# Altium schematic symbol library ice40.SCHLIB: 47 symbols
Pins are listed as number, name and electrical type; pins without a type are passive.

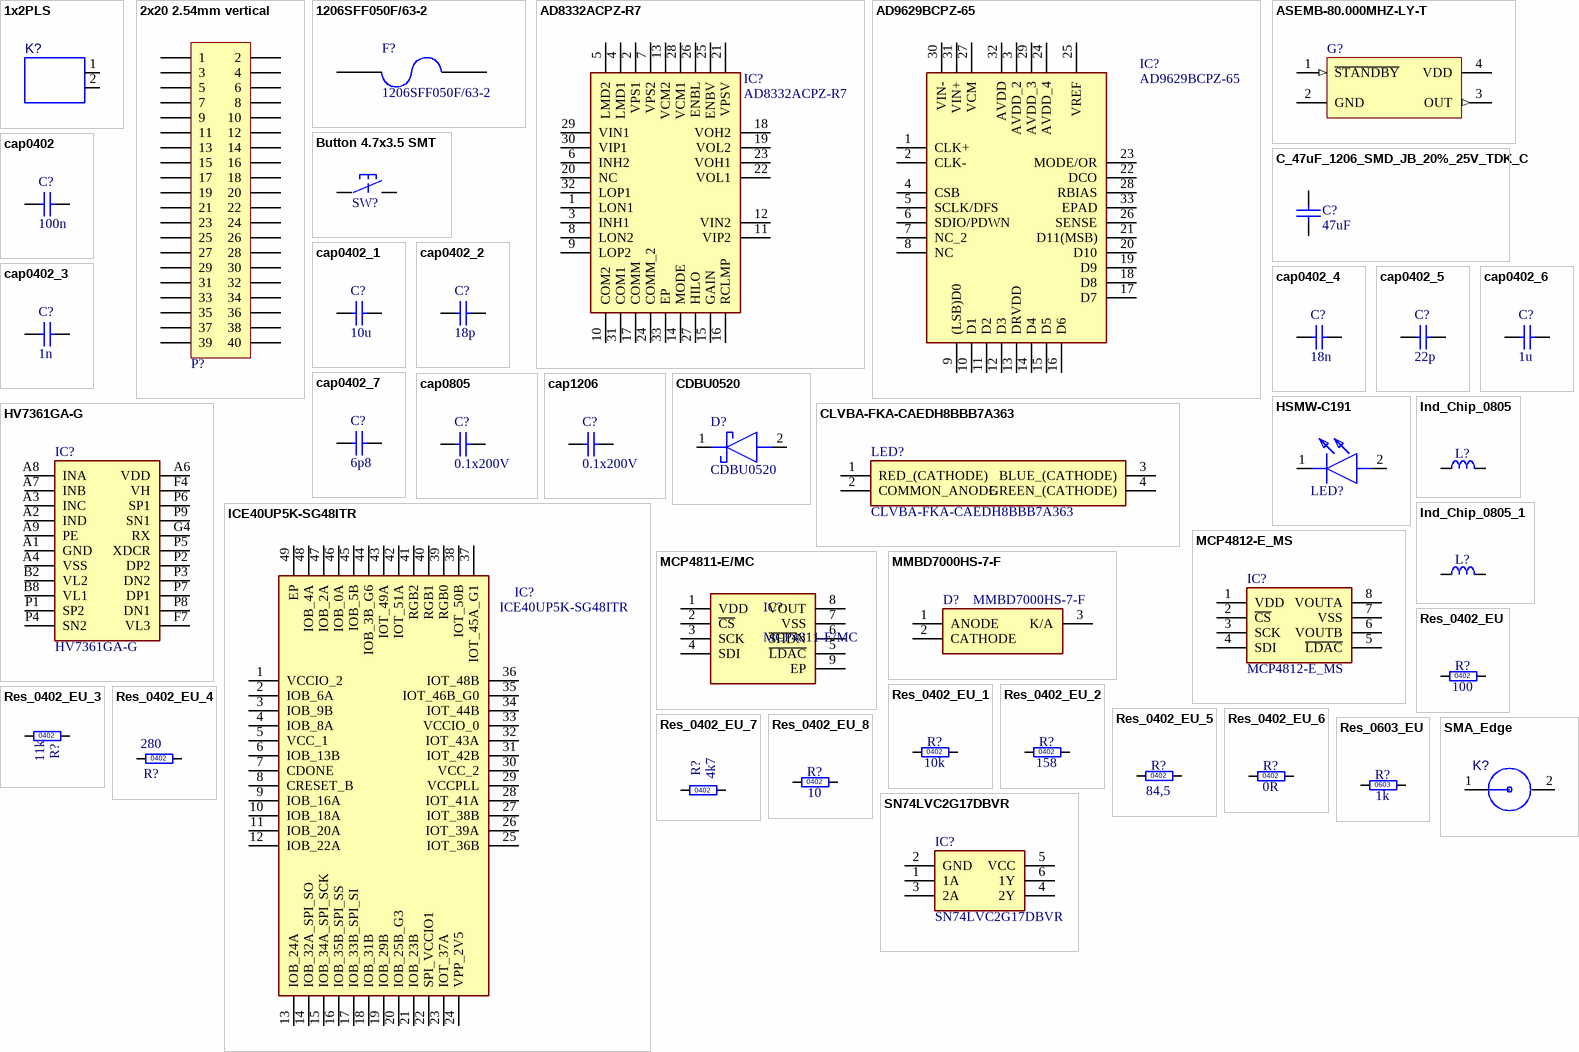
[diagram p0: symbols 1x2PLS to SN74LVC2G17DBVR]

## 1x2PLS
designator K?  (value not drawn)
Value: *
footprint JUMPER2
pins: 1, 2

## 2x20 2.54mm vertical
designator P?  (value not drawn)
Header, 40-Pin; LatestRevisionDate: 17-Jul-2002; LatestRevisionNote: Re-released for DXP Platform.; Publisher: Altium Limited
footprint PLD-40
pins: 1, 2, 3, 4, 5, 6, 7, 8, 9, 10, 11, 12, 13, 14, 15, 16, 17, 18, 19, 20, 21, 22, 23, 24, 25, 26, 27, 28, 29, 30, 31, 32, 33, 34, 35, 36, 37, 38, 39, 40

## 1206SFF050F/63-2
designator F?
500mA AC 63V DC Fuse Board Mount Surface Mount 1206; ATT Technology: SMD; ATT Fuse size: 1206; DigikeyPartNumber: 1206SFF050F/63-2CT-ND; ManufacturerPartNumber: 1206SFF050F/63-2; helpURL: https://www.littelfuse.com/~/media/electronics/datasheets/fuses/littelfuse_fuse_sfs_datasheet.pdf.pdf; photoURL: https://media.digikey.com/photos/Tyco%20Raychem%20Photos/1206SFF%20SERIES.jpg; ATT Current Rating (Amps): 500mA; ATT Voltage Rating DC: 63V; ATT Operating Temperature: -55°C ~ 125°C
footprint FUSE_1206 (FUSE, 2-Leads, Body 3.2x1.60mm, IPC Medium Density)
pins: 1, 2

## AD8332ACPZ-R7
designator IC?
Integrated Circuit; Manufacturer_Name: Analog Devices; Manufacturer_Part_Number: AD8332ACPZ-R7; Mouser Part Number: 584-AD8332ACPZ-R7; Mouser Price/Stock: https://www.mouser.co.uk/ProductDetail/Analog-Devices/AD8332ACPZ-R7?qs=%2FtpEQrCGXCzEVqYW%252BWJwOA%3D%3D; Arrow Part Number: AD8332ACPZ-R7; Arrow Price/Stock: https://www.arrow.com/en/products/ad8332acpz-r7/analog-devices
footprint QFN50P500X500X100-33N
pins: 1 LON1, 2 VPS1, 3 INH1, 4 LMD1, 5 LMD2, 6 INH2, 7 VPS2, 8 LON2, 9 LOP2, 10 COM2, 11 VIP2, 12 VIN2, 13 VCM2, 14 MODE, 15 GAIN, 16 RCLMP, 17 COMM, 18 VOH2, 19 VOL2, 20 NC, 21 VPSV, 22 VOL1, 23 VOH1, 24 COMM_2, 25 ENBV, 26 ENBL, 27 HILO, 28 VCM1, 29 VIN1, 30 VIP1, 31 COM1, 32 LOP1, 33 EP

## AD9629BCPZ-65
designator IC?
Integrated Circuit; Manufacturer_Name: Analog Devices; Manufacturer_Part_Number: AD9629BCPZ-65; Mouser Part Number: 584-AD9629BCPZ-65; Mouser Price/Stock: https://www.mouser.co.uk/ProductDetail/Analog-Devices/AD9629BCPZ-65?qs=BpaRKvA4VqGjvk9AFyB3jg%3D%3D; Arrow Part Number: AD9629BCPZ-65; Arrow Price/Stock: https://www.arrow.com/en/products/ad9629bcpz-65/analog-devices
footprint QFN50P500X500X100-33N
pins: 1 CLK+, 2 CLK-, 3 AVDD_2, 4 CSB, 5 SCLK/DFS, 6 SDIO/PDWN, 7 NC_2, 8 NC, 9 (LSB)D0, 10 D1, 11 D2, 12 D3, 13 DRVDD, 14 D4, 15 D5, 16 D6, 17 D7, 18 D8, 19 D9, 20 D10, 21 D11(MSB), 22 DCO, 23 MODE/OR, 24 AVDD_4, 25 VREF, 26 SENSE, 27 VCM, 28 RBIAS, 29 AVDD_3, 30 VIN-, 31 VIN+, 32 AVDD, 33 EPAD

## ASEMB-80.000MHZ-LY-T
designator G?, comment Oscillator  (value not drawn)
OSC MEMS 80 MHZ SMD; Validation Status: Verified; ATT Frequency: 80Mhz; ATT Frequency Stability: ±10ppm; ATT Package / Case: 4-SMD, No Lead (DFN, LCC); ATT Series: ASEMB, Pure Silicon™; ATT Supply Current: 16mA; ATT Supply Voltage: 1.7 V ~ 3.6 V; ATT Type: MEMS (Silicon); HelpURL: https://www.mouser.ca/datasheet/2/3/ASEMB-7474.pdf; PhotoURI: http://media.digikey.com/Photos/Abracon%20Corporation%20Photos/ASEMB3.2-SERIES.jpg; RoHS: Compliant; Technology: SMT; ATT Operating Temperature: -40°C ~ 85°C; Supplier 1: Digi-Key; Supplier Part Number 1: 535-11082-1-ND
footprint OSC_ASEM
pins: 1 ~{STANDBY} (in), 2 GND (power), 3 OUT (out), 4 VDD (power)

## Button 4.7x3.5 SMT
designator SW?, comment EVQ-P9P02M  (value not drawn)
footprint Button 4.7x3.5 _SMT (EVQ-P9P02M_SMT)
pins: 1, 2, 3, 4

## C_47uF_1206_SMD_JB_20%_25V_TDK_C
designator C?, comment value 47uF  (hidden comment: Capacitor)
CAP CER 47UF 25V X5R 1206; ManufacturerPartNumber: C3216JB1E476M160AC; Validation Status: Verified; ATT Capacitor Type: Ceramic; ATT Case: 1206 (3216 Metric); ATT Temperature Coefficient: JB; ATT Tolerance: ±20%; DigikeyPartNumber: 445-11717-1-ND; HelpURL: https://product.tdk.com/info/en/documents/chara_sheet/C3216JB1E476M160AC.pdf?ref_disty=digikey; PhotoURI: https://media.digikey.com/Renders/Murata%20Renders/1206-(3216-Metric)-1,80mm.jpg; RoHS: Compliant; Technology: SMT; ATT Lifetime @ Temp: -; ATT Working Voltage: 25V; ATT Operating Temperature: -25°C ~ 85°C
footprint CAP_CERAMIC_1206
pins: 1, 2

## cap0402
designator C?  value 100n  (hidden comment: cap0402)
Capacitor  0402 inch; Published: 8-Jun-2000; LatestRevisionDate: 17-Jul-2002; LatestRevisionNote: Re-released for DXP Platform.; PackageReference: RAD-0.3; Publisher: Altium Limited; PackageDescription: Radial Cap, Thru-Hole; 2 Leads; 0.3 in Pin Spacing
footprint SM0402_3D_cap (0402 cap)
pins: 1, 2

## cap0402_1
designator C?, comment value 10u  (hidden comment: cap0402)
Capacitor  0402 inch; Published: 8-Jun-2000; LatestRevisionDate: 17-Jul-2002; LatestRevisionNote: Re-released for DXP Platform.; PackageReference: RAD-0.3; Publisher: Altium Limited; PackageDescription: Radial Cap, Thru-Hole; 2 Leads; 0.3 in Pin Spacing
footprint SM0402_3D_cap (0402 cap)
pins: 1, 2

## cap0402_2
designator C?, comment value 18p  (hidden comment: cap0402)
Capacitor  0402 inch; Published: 8-Jun-2000; LatestRevisionDate: 17-Jul-2002; LatestRevisionNote: Re-released for DXP Platform.; PackageReference: RAD-0.3; Publisher: Altium Limited; PackageDescription: Radial Cap, Thru-Hole; 2 Leads; 0.3 in Pin Spacing
footprint SM0402_3D_cap (0402 cap)
pins: 1, 2

## cap0402_3
designator C?, comment value 1n  (hidden comment: cap0402)
Capacitor  0402 inch; Published: 8-Jun-2000; LatestRevisionDate: 17-Jul-2002; LatestRevisionNote: Re-released for DXP Platform.; PackageReference: RAD-0.3; Publisher: Altium Limited; PackageDescription: Radial Cap, Thru-Hole; 2 Leads; 0.3 in Pin Spacing
footprint SM0402_3D_cap (0402 cap)
pins: 1, 2

## cap0402_4
designator C?, comment value 18n  (hidden comment: cap0402)
Capacitor  0402 inch; Published: 8-Jun-2000; LatestRevisionDate: 17-Jul-2002; LatestRevisionNote: Re-released for DXP Platform.; PackageReference: RAD-0.3; Publisher: Altium Limited; PackageDescription: Radial Cap, Thru-Hole; 2 Leads; 0.3 in Pin Spacing
footprint SM0402_3D_cap (0402 cap)
pins: 1, 2

## cap0402_5
designator C?, comment value 22p  (hidden comment: cap0402)
Capacitor  0402 inch; Published: 8-Jun-2000; LatestRevisionDate: 17-Jul-2002; LatestRevisionNote: Re-released for DXP Platform.; PackageReference: RAD-0.3; Publisher: Altium Limited; PackageDescription: Radial Cap, Thru-Hole; 2 Leads; 0.3 in Pin Spacing
footprint SM0402_3D_cap (0402 cap)
pins: 1, 2

## cap0402_6
designator C?, comment value 1u  (hidden comment: cap0402)
Capacitor  0402 inch; Published: 8-Jun-2000; LatestRevisionDate: 17-Jul-2002; LatestRevisionNote: Re-released for DXP Platform.; PackageReference: RAD-0.3; Publisher: Altium Limited; PackageDescription: Radial Cap, Thru-Hole; 2 Leads; 0.3 in Pin Spacing
footprint SM0402_3D_cap (0402 cap)
pins: 1, 2

## cap0402_7
designator C?, comment value 6p8  (hidden comment: cap0402)
Capacitor  0402 inch; Published: 8-Jun-2000; LatestRevisionDate: 17-Jul-2002; LatestRevisionNote: Re-released for DXP Platform.; PackageReference: RAD-0.3; Publisher: Altium Limited; PackageDescription: Radial Cap, Thru-Hole; 2 Leads; 0.3 in Pin Spacing
footprint SM0402_3D_cap (0402 cap)
pins: 1, 2

## cap0805
designator C?  value 0.1x200V  (hidden comment: cap0805)
Capacitor; Published: 8-Jun-2000; LatestRevisionDate: 17-Jul-2002; LatestRevisionNote: Re-released for DXP Platform.; PackageReference: RAD-0.3; Publisher: Altium Limited; PackageDescription: Radial Cap, Thru-Hole; 2 Leads; 0.3 in Pin Spacing
signal-integrity model Cap
footprint SM0805
pins: 1, 2

## cap1206
designator C?  value 0.1x200V  (hidden comment: cap1206)
Capacitor; Published: 8-Jun-2000; LatestRevisionDate: 17-Jul-2002; LatestRevisionNote: Re-released for DXP Platform.; PackageReference: RAD-0.3; Publisher: Altium Limited; PackageDescription: Radial Cap, Thru-Hole; 2 Leads; 0.3 in Pin Spacing
signal-integrity model Cap
footprint SM1206
pins: 1, 2

## CDBU0520
designator D?
Schottky Diode; Manufacturer_Name: Comchip Technology; Datasheet Link: http://www.comchiptech.com/admin/files/product/CDBU0520-HF-RevA797161.pdf; Height: 0.85mm; Manufacturer_Part_Number: CDBU0520; Mouser Part Number: 750-CDBU0520; Mouser Price/Stock: https://www.mouser.co.uk/ProductDetail/Comchip-Technology/CDBU0520/?qs=QrYNfmA0esYvGSGDalbccA%3D%3D; Arrow Part Number: CDBU0520; Arrow Price/Stock: https://www.arrow.com/en/products/cdbu0520/comchip-technology
footprint DIOC1709X85N
pins: 1 K, 2 A

## CLVBA-FKA-CAEDH8BBB7A363
designator LED?
LED; Manufacturer_Name: Cree; Datasheet Link: http://www.cree.com/led-components/media/documents/ds-CLVBA-FKA.pdf; Height: 2.1mm; Manufacturer_Part_Number: CLVBA-FKA-CAEDH8BBB7A363; Mouser Part Number: 941-VBAFKACAEDH8B7A3; Mouser Price/Stock: https://www.mouser.co.uk/ProductDetail/Cree-Inc/CLVBA-FKA-CAEDH8BBB7a363/?qs=3AcK5DacLboXYkg4biCgSA%3D%3D; Arrow Part Number: CLVBA-FKA-CAEDH8BBB7A363; Arrow Price/Stock: https://www.arrow.com/en/products/clvba-fka-caedh8bbb7a363/cree
footprint CLVBAFKACAEDH8BBB7A363
pins: 1 RED_(CATHODE), 2 COMMON_ANODE, 3 BLUE_(CATHODE), 4 GREEN_(CATHODE)

## HSMW-C191
designator LED?  (value not drawn)
LED; Manufacturer_Name: Avago Technologies; Datasheet Link: https://docs.broadcom.com/docs/AV02-0186EN; Height: 0.7mm; Manufacturer_Part_Number: HSMW-C191; Mouser Part Number: 630-HSMW-C191; Mouser Price/Stock: https://www.mouser.com/Search/Refine.aspx?Keyword=630-HSMW-C191
footprint LEDC1608X70N
pins: 1 K, 2 A

## HV7361GA-G
designator IC?
Integrated Circuit; Manufacturer_Name: Microchip; Datasheet Link: http://ww1.microchip.com/downloads/en/DeviceDoc/20005570C.pdf; Height: 1.05mm; Manufacturer_Part_Number: HV7361GA-G; Mouser Part Number: 579-HV7361GA-G; Mouser Price/Stock: https://www.mouser.co.uk/ProductDetail/Microchip-Technology/HV7361GA-G?qs=NoqMqJKvPFJ98Yl1cb744A%3D%3D; Arrow Part Number: HV7361GA-G; Arrow Price/Stock: https://www.arrow.com/en/products/hv7361ga-g/microchip-technology
footprint BGA22C50P9X14_500X700X105
pins: A1 GND, A2 IND, A3 INC, A4 VSS, A6 VDD, A7 INB, A8 INA, A9 PE, B2 VL2, B8 VL1, F4 VH, F7 VL3, G4 RX, P1 SP2, P2 DP2, P3 DN2, P4 SN2, P5 XDCR, P6 SP1, P7 DP1, P8 DN1, P9 SN1

## ICE40UP5K-SG48ITR
designator IC?
Integrated Circuit; Manufacturer_Name: Lattice Semiconductor; Datasheet Link: https://www.arrow.com/en/products/ice40up5k-sg48itr/lattice-semiconductor; Height: 1mm; Manufacturer_Part_Number: ICE40UP5K-SG48ITR; Mouser Part Number: 842-40UP5KSG48ITR; Mouser Price/Stock: https://www.mouser.com/Search/Refine.aspx?Keyword=842-40UP5KSG48ITR; Arrow Part Number: ICE40UP5K-SG48ITR; Arrow Price/Stock: https://www.arrow.com/en/products/ice40up5k-sg48itr/lattice-semiconductor
footprint QFN50P700X700X100-49N-D
pins: 1 VCCIO_2, 2 IOB_6A, 3 IOB_9B, 4 IOB_8A, 5 VCC_1, 6 IOB_13B, 7 CDONE, 8 CRESET_B, 9 IOB_16A, 10 IOB_18A, 11 IOB_20A, 12 IOB_22A, 13 IOB_24A, 14 IOB_32A_SPI_SO, 15 IOB_34A_SPI_SCK, 16 IOB_35B_SPI_SS, 17 IOB_33B_SPI_SI, 18 IOB_31B, 19 IOB_29B, 20 IOB_25B_G3, 21 IOB_23B, 22 SPI_VCCIO1, 23 IOT_37A, 24 VPP_2V5, 25 IOT_36B, 26 IOT_39A, 27 IOT_38B, 28 IOT_41A, 29 VCCPLL, 30 VCC_2, 31 IOT_42B, 32 IOT_43A, 33 VCCIO_0, 34 IOT_44B, 35 IOT_46B_G0, 36 IOT_48B, 37 IOT_45A_G1, 38 IOT_50B, 39 RGB0, 40 RGB1, 41 RGB2, 42 IOT_51A, 43 IOT_49A, 44 IOB_3B_G6, 45 IOB_5B, 46 IOB_0A, 47 IOB_2A, 48 IOB_4A, 49 EP

## Ind_Chip_0805
designator L?, comment 75R@100MHz  (value not drawn)
Ferrite Beads Multi-Layer 600Ohm 25% 100MHz 1A 0.2Ohm DCR 0603 T/R; Part Number: IND0805_MURATA_BLM21BB750SN1D; Part Description: SMD EMIFIL Suppression Chip Ferrite Bead; Manufacturer: MURATA; Manufacturer Part Number: BLM21BB750SN1D; ManufacturerPartNumber: PBY160808T-601Y-N; Power: 700mA; Resistance: 0.16R; Table: Inductors SMD; Component Kind: Standard; Component Type: Standard; Footprint: INDC2012X105N; Pin Count: 2; Value: 75R@100MHz; Status: None; Tolerance: ±25%; Case: 0805; Mounted: Yes; Socket: No; SMD: Yes; ComponentHeight: 1.05mm; Author: S. Jafar; CreateDate: 12/21/2015; LatestRevisionDate: 12/21/2015; Supplier 1: Digi-Key; Supplier Part Number 1: 13-PBY160808T-601Y-NCT-ND; RoHS: Yes; Case/Package: 0603; RoHS Compliant: Yes; ComponentLink1URL: http://components.arrow.com/part/dataview/0323_06472368?src-supplier=Arrow+Europe; ComponentLink1Description: http://components.arrow.com/part/dataview/0323_06472368?src-supplier=Arrow+Europe
footprint SM_0805_INDUCTANCE _3D (chip inductanse 0805 inch)
pins: 1, 2

## Ind_Chip_0805_1
designator L?, comment 75R@100MHz  (value not drawn)
chip inductance; Part Number: IND0805_MURATA_BLM21BB750SN1D; Part Description: SMD EMIFIL Suppression Chip Ferrite Bead; Manufacturer: MURATA; Manufacturer Part Number: AIML-0805HC-1R5M-T; Power: 700mA; Resistance: 0.16R; Tolerance: ±25%; Table: Inductors SMD; Component Kind: Standard; Component Type: Standard; Footprint: INDC2012X105N; Pin Count: 2; Value: 75R@100MHz; Status: None; Case: 0805; Mounted: Yes; Socket: No; SMD: Yes; ComponentHeight: 1.05mm; Author: S. Jafar; CreateDate: 12/21/2015; LatestRevisionDate: 12/21/2015; Supplier 1: Digi-Key; Supplier Part Number 1: 535-12788-1-ND
footprint SM_0805_INDUCTANCE _3D (chip inductanse 0805 inch)
pins: 1, 2

## MCP4811-E/MC
designator IC?
DAC 1-CH Resistor-String 10-bit Automotive 8-Pin DFN EP Tube; Manufacturer: Microchip; Resolution: 10b; Integral Nonlinearity (INL): 3.5LSB; Output Type: Voltage; Interface: SPI,Serial,3-WIRE; Number of DAC Channels: 1; Nominal Supply Current: 330uA; Max Supply Voltage: 5.5V; Min Supply Voltage: 2.7V; Operating Supply Voltage: 5V; Settling Time: 4.5us; Number of Bits: 10; Polarity: Bipolar; Input Offset Voltage (Vos): 820uV; Supplier 1: Digi-Key; Supplier Part Number 1: MCP4811-E/MC-ND; ManufacturerPartNumber: MCP4811-E/MC; RoHS: Yes; Mount: Surface Mount; Case/Package: DFN; Number of Pins: 8; Min Operating Temperature: -40°C; Max Operating Temperature: 125°C; Packaging: Rail/Tube; Package Quantity: 150; Number of Channels: 1; Number of Converters: 1; Output Polarity: Bipolar; Supply Current: 330uA; Full Scale Error: 3.5LSB; Length: 2mm; Width: 3mm; Height: 0.95mm; Radiation Hardening: No; REACH SVHC: No SVHC; Lead Free: Lead Free; ComponentLink1URL: https://datasheet.ciiva.com/26922/getdatasheetpartid-765518-26922591.pdf?src-supplier=Verical; ComponentLink1Description: datasheet
footprint SON50P200X300X100-9N
pins: 1 VDD, 2 ~{CS}, 3 SCK, 4 SDI, 5 ~{LDAC}, 6 ~{SHD}N, 7 VSS, 8 VOUT, 9 EP

## MCP4812-E_MS
designator IC?
Integrated Circuit; Manufacturer_Name: Microchip; Manufacturer_Part_Number: MCP4812-E/MS; Datasheet Link: http://ww1.microchip.com/downloads/en/DeviceDoc/20002249B.pdf; Height: 1.1mm; Mouser Part Number: 579-MCP4812-E/MS; Mouser Price/Stock: https://www.mouser.com/Search/Refine.aspx?Keyword=579-MCP4812-E%2FMS; Arrow Part Number: MCP4812-E/MS; Arrow Price/Stock: https://www.arrow.com/en/products/mcp4812-ems/microchip-technology
footprint SOP65P490X110-8N
pins: 1 VDD, 2 ~{CS}, 3 SCK, 4 SDI, 5 ~{LDAC}, 6 VOUTB, 7 VSS, 8 VOUTA

## MMBD7000HS-7-F
designator D?
Diode; Manufacturer_Name: Diodes Inc.; Datasheet Link: https://www.diodes.com/assets/Datasheets/ds31782.pdf; Height: 1.1mm; Manufacturer_Part_Number: MMBD7000HS-7-F; Mouser Part Number: 621-MMBD7000HS-7-F; Mouser Price/Stock: https://www.mouser.co.uk/ProductDetail/Diodes-Incorporated/MMBD7000HS-7-F/?qs=4YT44p7w2bs7ic313M4gfA%3D%3D; Arrow Part Number: MMBD7000HS-7-F; Arrow Price/Stock: https://www.arrow.com/en/products/mmbd7000hs-7-f/diodes-incorporated
footprint SOT96P240X110-3N
pins: 1 ANODE, 2 CATHODE, 3 K/A

## Res_0402_EU
designator R?, comment 100
Res_0402_EU; Part Number: R1206_4K7_1%_0.25W_100PPM; Part Description: General Purpose Thick Film Chip Resistor; Manufacturer: GENERIC; Manufacturer1 Part Number: NRC12F4701TRF; Value: 4k7; Power: 0.25W; TC: ±100ppm/°C; Tolerance: ±1%; Table: Resistors SMD; Component Kind: Standard; Component Type: Standard; Footprint: RESC3216X65N; Pin Count: 2; Status: Preferred; Manufacturer Part Number: R1206_4K7_1%_0.25W_100PPM; Case: 1206; Mounted: Yes; Socket: No; SMD: Yes; Manufacturer1 Example: NIC COMPONENT; Manufacturer1 ComponentHeight: 0.65mm; HelpURL: \\cern.ch\dfs\Applications\Altium\Datasheets\R1206_NIC_NRC.pdf; Author: CERN DEM JLC; CreateDate: 12/3/2007; LatestRevisionDate: 3/13/2008
footprint SM0402_3D_res (0603 inch resistor)
pins: 1, 2
text: 0402

## Res_0402_EU_1
designator R?, comment 10k
Res_0402_EU; Part Number: R1206_4K7_1%_0.25W_100PPM; Part Description: General Purpose Thick Film Chip Resistor; Manufacturer: GENERIC; Manufacturer1 Part Number: NRC12F4701TRF; Value: 4k7; Power: 0.25W; TC: ±100ppm/°C; Tolerance: ±1%; Table: Resistors SMD; Component Kind: Standard; Component Type: Standard; Footprint: RESC3216X65N; Pin Count: 2; Status: Preferred; Manufacturer Part Number: R1206_4K7_1%_0.25W_100PPM; Case: 1206; Mounted: Yes; Socket: No; SMD: Yes; Manufacturer1 Example: NIC COMPONENT; Manufacturer1 ComponentHeight: 0.65mm; HelpURL: \\cern.ch\dfs\Applications\Altium\Datasheets\R1206_NIC_NRC.pdf; Author: CERN DEM JLC; CreateDate: 12/3/2007; LatestRevisionDate: 3/13/2008
footprint SM0402_3D_res (0603 inch resistor)
pins: 1, 2
text: 0402

## Res_0402_EU_2
designator R?, comment 158
Res_0402_EU; Part Number: R1206_4K7_1%_0.25W_100PPM; Part Description: General Purpose Thick Film Chip Resistor; Manufacturer: GENERIC; Manufacturer1 Part Number: NRC12F4701TRF; Value: 4k7; Power: 0.25W; TC: ±100ppm/°C; Tolerance: ±1%; Table: Resistors SMD; Component Kind: Standard; Component Type: Standard; Footprint: RESC3216X65N; Pin Count: 2; Status: Preferred; Manufacturer Part Number: R1206_4K7_1%_0.25W_100PPM; Case: 1206; Mounted: Yes; Socket: No; SMD: Yes; Manufacturer1 Example: NIC COMPONENT; Manufacturer1 ComponentHeight: 0.65mm; HelpURL: \\cern.ch\dfs\Applications\Altium\Datasheets\R1206_NIC_NRC.pdf; Author: CERN DEM JLC; CreateDate: 12/3/2007; LatestRevisionDate: 3/13/2008
footprint SM0402_3D_res (0603 inch resistor)
pins: 1, 2
text: 0402

## Res_0402_EU_3
designator R?, comment 11k
Res_0402_EU; Part Number: R1206_4K7_1%_0.25W_100PPM; Part Description: General Purpose Thick Film Chip Resistor; Manufacturer: GENERIC; Manufacturer1 Part Number: NRC12F4701TRF; Value: 4k7; Power: 0.25W; TC: ±100ppm/°C; Tolerance: ±1%; Table: Resistors SMD; Component Kind: Standard; Component Type: Standard; Footprint: RESC3216X65N; Pin Count: 2; Status: Preferred; Manufacturer Part Number: R1206_4K7_1%_0.25W_100PPM; Case: 1206; Mounted: Yes; Socket: No; SMD: Yes; Manufacturer1 Example: NIC COMPONENT; Manufacturer1 ComponentHeight: 0.65mm; HelpURL: \\cern.ch\dfs\Applications\Altium\Datasheets\R1206_NIC_NRC.pdf; Author: CERN DEM JLC; CreateDate: 12/3/2007; LatestRevisionDate: 3/13/2008
footprint SM0402_3D_res (0603 inch resistor)
pins: 1, 2
text: 0402

## Res_0402_EU_4
designator R?, comment 280
Res_0402_EU; Part Number: R1206_4K7_1%_0.25W_100PPM; Part Description: General Purpose Thick Film Chip Resistor; Manufacturer: GENERIC; Manufacturer1 Part Number: NRC12F4701TRF; Value: 4k7; Power: 0.25W; TC: ±100ppm/°C; Tolerance: ±1%; Table: Resistors SMD; Component Kind: Standard; Component Type: Standard; Footprint: RESC3216X65N; Pin Count: 2; Status: Preferred; Manufacturer Part Number: R1206_4K7_1%_0.25W_100PPM; Case: 1206; Mounted: Yes; Socket: No; SMD: Yes; Manufacturer1 Example: NIC COMPONENT; Manufacturer1 ComponentHeight: 0.65mm; HelpURL: \\cern.ch\dfs\Applications\Altium\Datasheets\R1206_NIC_NRC.pdf; Author: CERN DEM JLC; CreateDate: 12/3/2007; LatestRevisionDate: 3/13/2008
footprint SM0402_3D_res (0603 inch resistor)
pins: 1, 2
text: 0402

## Res_0402_EU_5
designator R?, comment 84,5
Res_0402_EU; Part Number: R1206_4K7_1%_0.25W_100PPM; Part Description: General Purpose Thick Film Chip Resistor; Manufacturer: GENERIC; Manufacturer1 Part Number: NRC12F4701TRF; Value: 4k7; Power: 0.25W; TC: ±100ppm/°C; Tolerance: ±1%; Table: Resistors SMD; Component Kind: Standard; Component Type: Standard; Footprint: RESC3216X65N; Pin Count: 2; Status: Preferred; Manufacturer Part Number: R1206_4K7_1%_0.25W_100PPM; Case: 1206; Mounted: Yes; Socket: No; SMD: Yes; Manufacturer1 Example: NIC COMPONENT; Manufacturer1 ComponentHeight: 0.65mm; HelpURL: \\cern.ch\dfs\Applications\Altium\Datasheets\R1206_NIC_NRC.pdf; Author: CERN DEM JLC; CreateDate: 12/3/2007; LatestRevisionDate: 3/13/2008
footprint SM0402_3D_res (0603 inch resistor)
pins: 1, 2
text: 0402

## Res_0402_EU_6
designator R?, comment 0R
Res_0402_EU; Part Number: R1206_4K7_1%_0.25W_100PPM; Part Description: General Purpose Thick Film Chip Resistor; Manufacturer: GENERIC; Manufacturer1 Part Number: NRC12F4701TRF; Value: 4k7; Power: 0.25W; TC: ±100ppm/°C; Tolerance: ±1%; Table: Resistors SMD; Component Kind: Standard; Component Type: Standard; Footprint: RESC3216X65N; Pin Count: 2; Status: Preferred; Manufacturer Part Number: R1206_4K7_1%_0.25W_100PPM; Case: 1206; Mounted: Yes; Socket: No; SMD: Yes; Manufacturer1 Example: NIC COMPONENT; Manufacturer1 ComponentHeight: 0.65mm; HelpURL: \\cern.ch\dfs\Applications\Altium\Datasheets\R1206_NIC_NRC.pdf; Author: CERN DEM JLC; CreateDate: 12/3/2007; LatestRevisionDate: 3/13/2008
footprint SM0402_3D_res (0603 inch resistor)
pins: 1, 2
text: 0402

## Res_0402_EU_7
designator R?, comment 4k7
Res_0402_EU; Part Number: R1206_4K7_1%_0.25W_100PPM; Part Description: General Purpose Thick Film Chip Resistor; Manufacturer: GENERIC; Manufacturer1 Part Number: NRC12F4701TRF; Power: 0.25W; TC: ±100ppm/°C; Tolerance: ±1%; Table: Resistors SMD; Component Kind: Standard; Component Type: Standard; Footprint: RESC3216X65N; Pin Count: 2; Value: 4k7; Status: Preferred; Manufacturer Part Number: R1206_4K7_1%_0.25W_100PPM; Case: 1206; Mounted: Yes; Socket: No; SMD: Yes; Manufacturer1 Example: NIC COMPONENT; Manufacturer1 ComponentHeight: 0.65mm; HelpURL: \\cern.ch\dfs\Applications\Altium\Datasheets\R1206_NIC_NRC.pdf; Author: CERN DEM JLC; CreateDate: 12/3/2007; LatestRevisionDate: 3/13/2008
footprint SM0402_3D_res (0603 inch resistor)
pins: 1, 2
text: 0402

## Res_0402_EU_8
designator R?, comment 10
Res_0402_EU; Part Number: R1206_4K7_1%_0.25W_100PPM; Part Description: General Purpose Thick Film Chip Resistor; Manufacturer: GENERIC; Manufacturer1 Part Number: NRC12F4701TRF; Value: 4k7; Power: 0.25W; TC: ±100ppm/°C; Tolerance: ±1%; Table: Resistors SMD; Component Kind: Standard; Component Type: Standard; Footprint: RESC3216X65N; Pin Count: 2; Status: Preferred; Manufacturer Part Number: R1206_4K7_1%_0.25W_100PPM; Case: 1206; Mounted: Yes; Socket: No; SMD: Yes; Manufacturer1 Example: NIC COMPONENT; Manufacturer1 ComponentHeight: 0.65mm; HelpURL: \\cern.ch\dfs\Applications\Altium\Datasheets\R1206_NIC_NRC.pdf; Author: CERN DEM JLC; CreateDate: 12/3/2007; LatestRevisionDate: 3/13/2008
footprint SM0402_3D_res (0603 inch resistor)
pins: 1, 2
text: 0402

## Res_0603_EU
designator R?, comment 1k
Res_0603_EU; Part Number: R1206_4K7_1%_0.25W_100PPM; Part Description: General Purpose Thick Film Chip Resistor; Manufacturer: GENERIC; Manufacturer1 Part Number: NRC12F4701TRF; Value: 4k7; Power: 0.25W; TC: ±100ppm/°C; Tolerance: ±1%; Table: Resistors SMD; Component Kind: Standard; Component Type: Standard; Footprint: RESC3216X65N; Pin Count: 2; Status: Preferred; Manufacturer Part Number: R1206_4K7_1%_0.25W_100PPM; Case: 1206; Mounted: Yes; Socket: No; SMD: Yes; Manufacturer1 Example: NIC COMPONENT; Manufacturer1 ComponentHeight: 0.65mm; HelpURL: \\cern.ch\dfs\Applications\Altium\Datasheets\R1206_NIC_NRC.pdf; Author: CERN DEM JLC; CreateDate: 12/3/2007; LatestRevisionDate: 3/13/2008
footprint SM0603_3D_res (0603 inch resistor)
pins: 1, 2
text: 0603

## SMA_Edge
designator K?  (value not drawn)
Value: *
footprint AMPHENOL_132357-11
pins: 1, 2

## SN74LVC2G17DBVR
designator IC?
Integrated Circuit; Manufacturer_Name: Texas Instruments; Datasheet Link: http://www.ti.com/lit/gpn/sn74lvc2g17; Height: 1.45mm; Manufacturer_Part_Number: SN74LVC2G17DBVR; Mouser Part Number: 595-SN74LVC2G17DBVR; Mouser Price/Stock: https://www.mouser.co.uk/ProductDetail/Texas-Instruments/SN74LVC2G17DBVR/?qs=X1HXWTtiZ0RnstCufGEJxQ%3D%3D; Arrow Part Number: SN74LVC2G17DBVR; Arrow Price/Stock: https://www.arrow.com/en/products/sn74lvc2g17dbvr/texas-instruments
footprint SOT95P280X145-6N
pins: 1 1A, 2 GND, 3 2A, 4 2Y, 5 VCC, 6 1Y

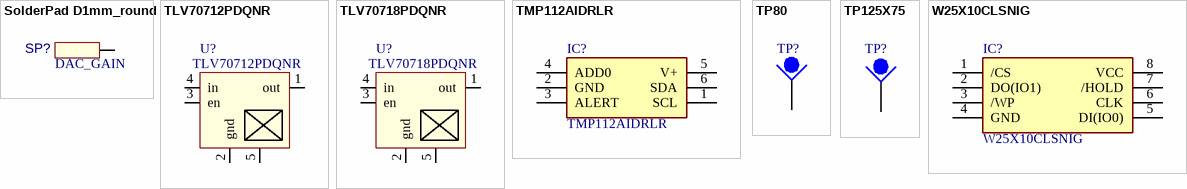
[diagram p1: symbols SolderPad D1mm_round to W25X10CLSNIG]

## SolderPad D1mm_round
designator SP?  value DAC_GAIN  (hidden comment: SolderPad D1mm_round)  (no BOM)
for finger touch
footprint SolderPad_D1mm _round (7mm solder circle for finger touch)
pins: 1

## TLV70712PDQNR
designator U?
low drop LDO
footprint X2SON - 2 (DQN, X2SON)
pins: 1 out, 2 gnd, 3 en, 4 in, 5 tp

## TLV70718PDQNR
designator U?
low drop LDO
footprint X2SON - 2 (DQN, X2SON)
pins: 1 out, 2 gnd, 3 en, 4 in, 5 tp

## TMP112AIDRLR
designator IC?
Integrated Circuit; Manufacturer_Name: Texas Instruments; Datasheet Link: http://www.ti.com/general/docs/suppproductinfo.tsp?distId=10&gotoUrl=http%3A%2F%2Fwww.ti.com%2Flit%2Fgpn%2Ftmp112; Height: 0.6mm; Manufacturer_Part_Number: TMP112AIDRLR; Mouser Part Number: 595-TMP112AIDRLR; Mouser Price/Stock: https://www.mouser.co.uk/ProductDetail/Texas-Instruments/TMP112AIDRLR/?qs=62Z1lCHpKYghtK4%2FJn2ysA%3D%3D; Arrow Part Number: TMP112AIDRLR; Arrow Price/Stock: https://www.arrow.com/en/products/tmp112aidrlr/texas-instruments
footprint SOTFL50P160X60-6N
pins: 1 SCL, 2 GND, 3 ALERT, 4 ADD0, 5 V+, 6 SDA

## TP80
designator TP?  (value not drawn)  (no BOM)
footprint TP80_no_silk
footprint TP80_no_silk
pins: 1

## TP125X75
designator TP?  (value not drawn)  (no BOM)
footprint TP125X75
pins: 1

## W25X10CLSNIG
designator IC?
Integrated Circuit; Manufacturer_Name: Winbond; Datasheet Link: https://www.arrow.com/en/products/w25x10clsnig/winbond-electronics; Height: 1.75mm; Manufacturer_Part_Number: W25X10CLSNIG; Mouser Part Number: 454-W25X10CLSNIG; Mouser Price/Stock: https://www.mouser.co.uk/ProductDetail/Winbond/W25X10CLSNIG?qs=qSfuJ%252Bfl%2Fd58%252Bc3wxS8Vmg%3D%3D; Arrow Part Number: W25X10CLSNIG; Arrow Price/Stock: https://www.arrow.com/en/products/w25x10clsnig/winbond-electronics
footprint SOIC127P600X175-8N
pins: 1 /CS, 2 DO(IO1), 3 /WP, 4 GND, 5 DI(IO0), 6 CLK, 7 /HOLD, 8 VCC